# EAGLE library part RPM3.3-3.0 (library UBCSolar)
RPM3.3-3.0 3A DC/DC-CONVERTER 'INNOLINE' SM Non-Isolated PoL Module DC DC Converter 1 Output 3.3V 3A 3V - 17V Input https://www.digikey.ca/product-detail/en/recom-power/RPM3.3-3.0/945-3253-1-ND/9644700
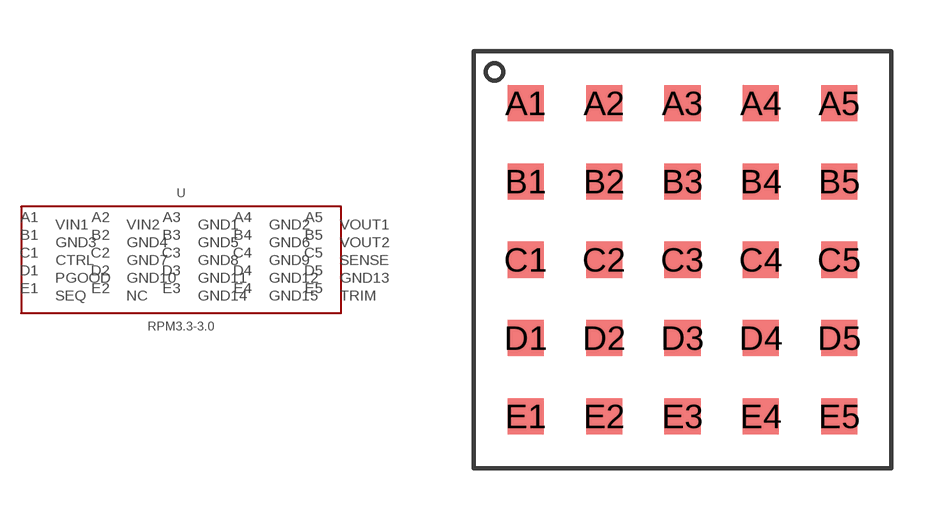
[diagram p24: symbol with the pads of 25-BLGA_MODULE; footprint 25-BLGA_MODULE]

Designator prefix -

## RPM3.3-3.0  [25-BLGA_MODULE]
A1  VIN1
A2  VIN2
A3  GND1
A4  GND2
A5  VOUT1
B1  GND3
B2  GND4
B3  GND5
B4  GND6
B5  VOUT2
C1  CTRL
C2  GND7
C3  GND8
C4  GND9
C5  SENSE
D1  PGOOD
D2  GND10
D3  GND11
D4  GND12
D5  GND13
E1  SEQ
E2  NC
E3  GND14
E4  GND15
E5  TRIM

## Footprint 25-BLGA_MODULE (pad centres in mm)
smd 1.06 x 1.06: A1 -4.58,4.58; A2 -2.29,4.58; A3 0,4.58; A4 2.29,4.58; A5 4.58,4.58; B1 -4.58,2.29; B2 -2.29,2.29; B3 0,2.29; B4 2.29,2.29; B5 4.58,2.29; C1 -4.58,0; C2 -2.29,0; C3 0,0; C4 2.29,0; C5 4.58,0; D1 -4.58,-2.29; D2 -2.29,-2.29; D3 0,-2.29; D4 2.29,-2.29; D5 4.58,-2.29; E1 -4.58,-4.58; E2 -2.29,-4.58; E3 0,-4.58; E4 2.29,-4.58; E5 4.58,-4.58